# Altium footprint library QFP44P80_1200X1200X120L60X37N.PcbLib: 1 footprints
Each footprint in its own frame and in the unit in brackets; x right, y up, seen from the top. Pads: shape width x height; smd on the part's side, far side on the other; paste and mask are expansions set on the pad; w line width, h text height; cw(c..) or ccw(c..) is an arc to the next point about the centre after c.
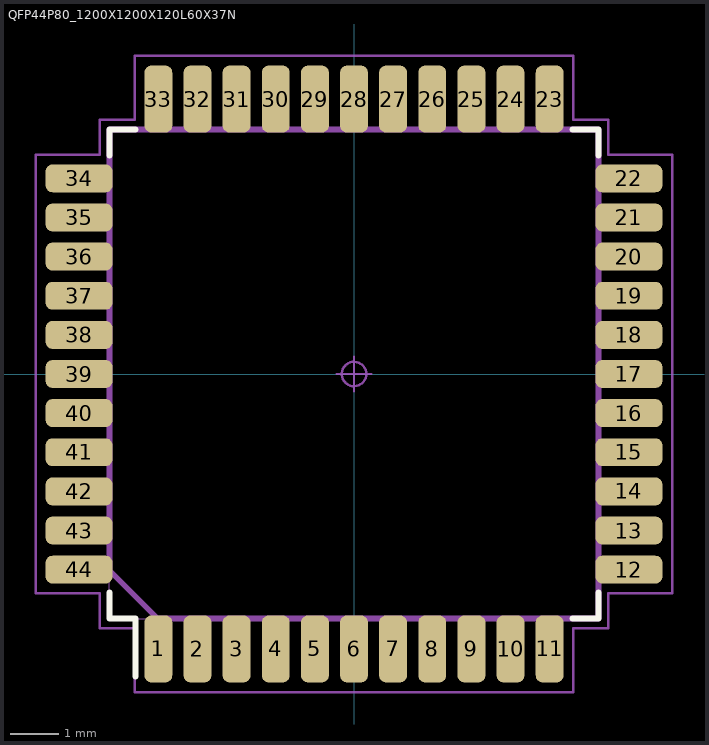
[diagram p0: the footprint, top view; thin cyan lines are the x and y axes]

## QFP44P80_1200X1200X120L60X37N [mm] "Quad Flat Pack (QFP), 0.80 mm pitch; square, 11 pin X 11 pin, 10.00 mm L X 10.00 mm W X 1.20 mm H body"
height 1.2
pads (44):
  rrect49% 0.57x1.37 smd: 1(-4,-5.62) 2(-3.2,-5.62) 3(-2.4,-5.62) 4(-1.6,-5.62) 5(-0.8,-5.62) 6(0,-5.62) 7(0.8,-5.62) 8(1.6,-5.62) 9(2.4,-5.62) 10(3.2,-5.62) 11(4,-5.62) 23(4,5.62) 24(3.2,5.62) 25(2.4,5.62) 26(1.6,5.62) 27(0.8,5.62) 28(0,5.62) 29(-0.8,5.62) 30(-1.6,5.62) 31(-2.4,5.62) 32(-3.2,5.62) 33(-4,5.62)
  rrect49% 1.37x0.57 smd: 12(5.62,-4) 13(5.62,-3.2) 14(5.62,-2.4) 15(5.62,-1.6) 16(5.62,-0.8) 17(5.62,0) 18(5.62,0.8) 19(5.62,1.6) 20(5.62,2.4) 21(5.62,3.2) 22(5.62,4) 34(-5.62,4) 35(-5.62,3.2) 36(-5.62,2.4) 37(-5.62,1.6) 38(-5.62,0.8) 39(-5.62,0) 40(-5.62,-0.8) 41(-5.62,-1.6) 42(-5.62,-2.4) 43(-5.62,-3.2) 44(-5.62,-4)
Top Overlay:
  lines w0.12: -5,-4.47 -5,-5 -4.47,-5 -4.47,-6.185 ; -5,4.47 -5,5 -4.47,5 ; 4.47,-5 5,-5 5,-4.47 ; 4.47,5 5,5 5,4.47
Mechanical 3:
  lines w0.12: -5,-4.017 -4.017,-5 5,-5 5,5 -5,5 -5,-4.017
Mechanical 5:
  drawing of 180 lines, arcs and shapes, not listed
Mechanical 7:
  circle w0.05: c0,0 r0.25
  lines w0.05: -0.35,0 0.35,0 ; 0,-0.35 0,0.35 ; -6.505,-4.485 -6.505,4.485 -5.2,4.485 -5.2,5.2 -4.485,5.2 -4.485,6.505 4.485,6.505 4.485,5.2 5.2,5.2 5.2,4.485 6.505,4.485 6.505,-4.485 5.2,-4.485 5.2,-5.2 4.485,-5.2 4.485,-6.505 -4.485,-6.505 -4.485,-5.2 -5.2,-5.2 -5.2,-4.485 -6.505,-4.485
Mechanical 9:
  text "'.Designator'" at -6.071,-1.033 h1.02
3D body "TQFP44_MC_MCH.step": height 1.2, standoff 0, extent -6,-6 6,6
3D body: height 1.2, standoff 0, extent -6.505,-6.505 6.505,6.505